# Altium footprint library switch.PCBLIB: 92 footprints (part 3 of 6)
Each footprint in its own frame and in the unit in brackets; x right, y up, seen from the top. Pads: shape width x height; smd on the part's side, far side on the other; paste and mask are expansions set on the pad; w line width, h text height; cw(c..) or ccw(c..) is an arc to the next point about the centre after c.
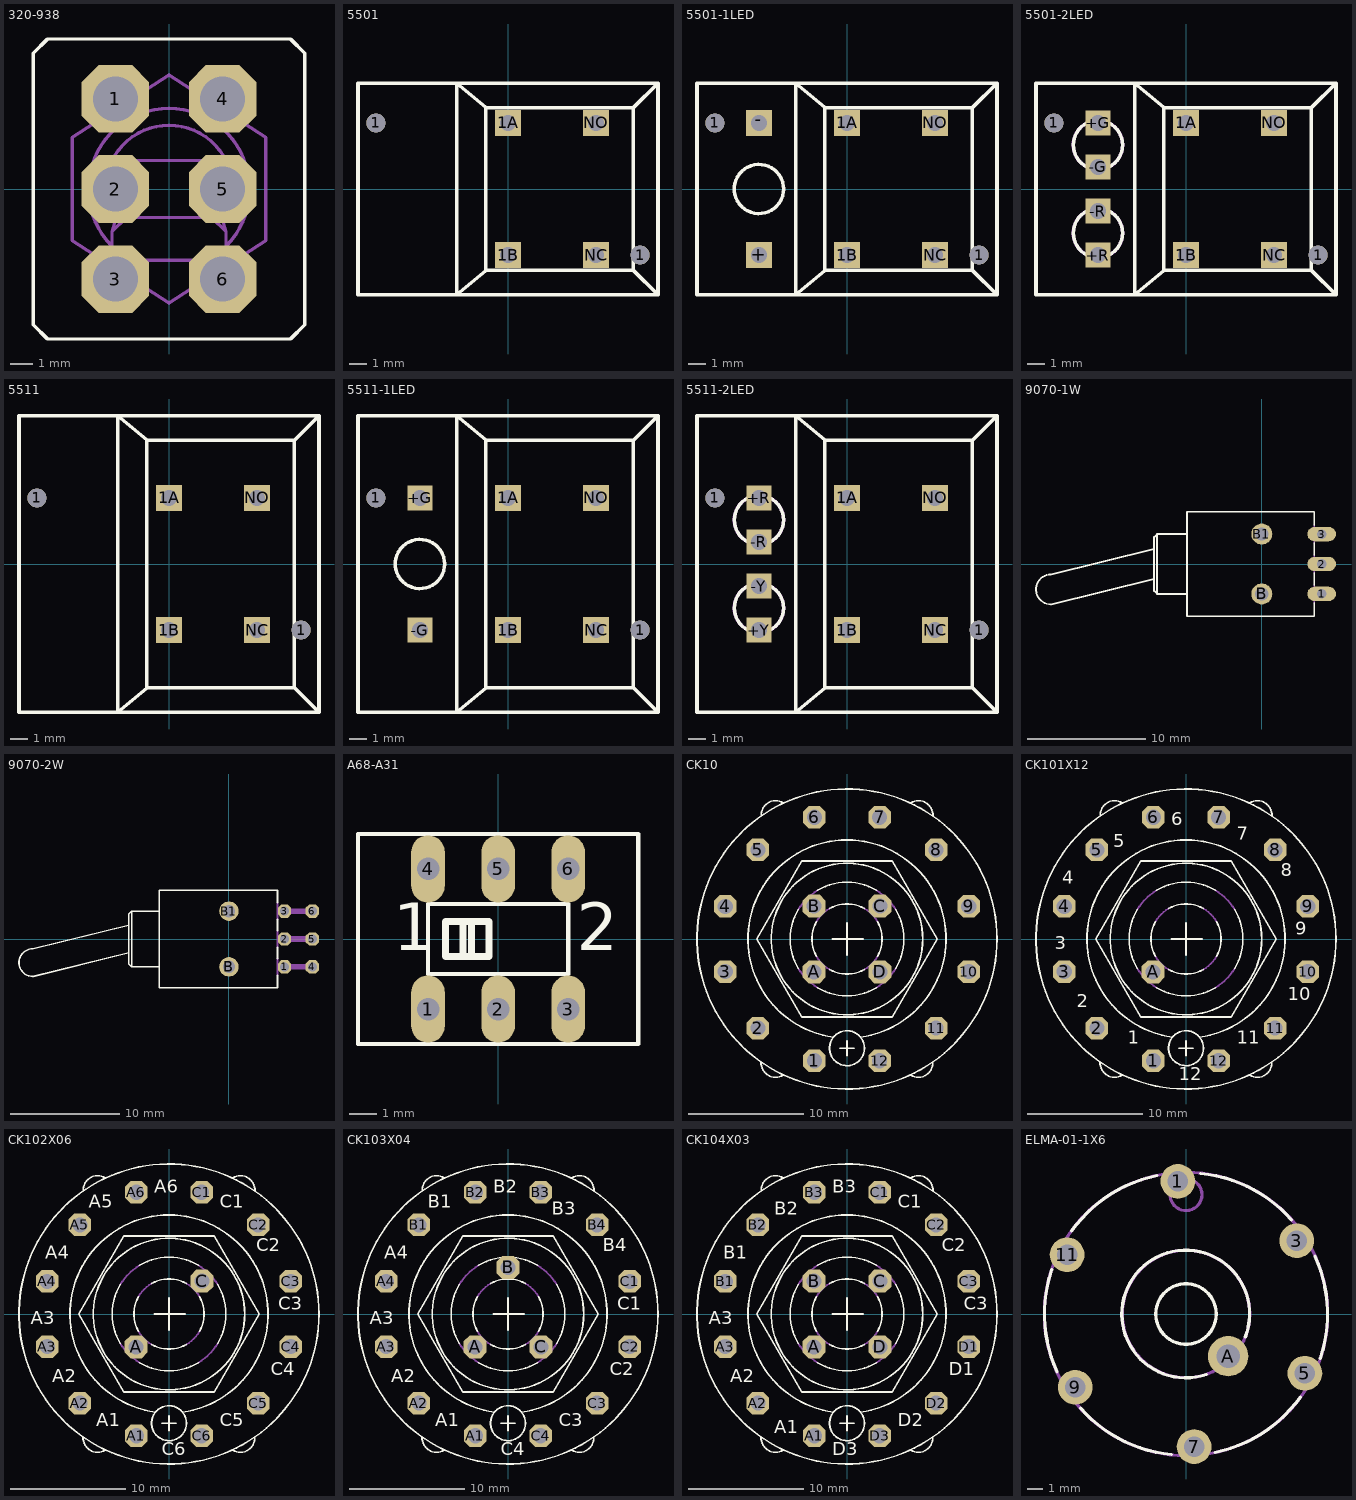
[diagram p2: the footprints below, top view; thin cyan lines are the x and y axes]

## 320-938 [mil]
pads (6):
  oct 118.5x118.5 hole 79: 1(-94,158) 2(-94,0) 3(-94,-158) 4(94,158) 5(94,0) 6(94,-158)
Top Overlay:
  lines w6: -238,-238 -213,-263 213,-263 238,-238 238,238 213,263 -213,263 -238,238 -238,-238
Mechanical 16:
  lines w6: -100,-50 cw(c0,0) 100,-50 ; -100,-100 -75,-125 75,-125 100,-100 ; -100,-100 -100,-75 ; -100,-100 cw(c0,0) 100,-100 ; -100,-75 -75,-50 75,-50 100,-75 ; -100,-75 -63,50 63,50 100,-75 ; 100,-100 100,-75 ; -170,-90 -170,90 0,200 170,90 170,-90 0,-200 -170,-90

## 5501 [mil]
pads (6):
  round 43.31 hole 43.31: 1(-300,150) 1(300,-150)
  rect 59.06x59.06 hole 35.43: 1A(0,150) 1B(0,-150) NC(200,-150) NO(200,150)
Top Overlay:
  lines w8: -116.73,-240.16 -340.74,-240.16 -340.74,240.16 -116.73,240.16 ; -116.73,-240.16 340.74,-240.16 ; -116.73,-240.16 -116.73,240.16 ; -116.73,-240.16 -50,-185 ; -116.73,240.16 340.74,240.16 ; -116.73,240.16 -50,185 ; -50,-185 -50,185 ; -50,-185 285,-185 ; -50,185 285,185 ; 285,-185 340.74,-240.16 ; 285,-185 285,185 ; 285,185 340.74,240.16 ; 340.74,-240.16 340.74,240.16

## 5501-1LED [mil]
pads (8):
  round 43.31 hole 43.31: 1(-300,150) 1(300,-150)
  rect 59.06x59.06 hole 35.43: 1A(0,150) 1B(0,-150) +(-200,-150) -(-200,150) NC(200,-150) NO(200,150)
Top Overlay:
  circle w8: c-200,0 r55.9
  lines w8: -116.73,-240.16 -340.74,-240.16 -340.74,240.16 -116.73,240.16 ; -116.73,-240.16 340.74,-240.16 ; -116.73,-240.16 -116.73,240.16 ; -116.73,-240.16 -50,-185 ; -116.73,240.16 340.74,240.16 ; -116.73,240.16 -50,185 ; -50,-185 -50,185 ; -50,-185 285,-185 ; -50,185 285,185 ; 285,-185 340.74,-240.16 ; 285,-185 285,185 ; 285,185 340.74,240.16 ; 340.74,-240.16 340.74,240.16

## 5501-2LED [mil]
pads (10):
  round 43.31 hole 43.31: 1(-300,150) 1(300,-150)
  rect 59.06x59.06 hole 35.43: 1A(0,150) 1B(0,-150) NC(200,-150) NO(200,150)
  rect 56x56 hole 35.43: +G(-200,150) +R(-200,-150) -G(-200,50) -R(-200,-50)
Top Overlay:
  lines w8: -225,-150 cw(c-200,-100) -225,-50 ; -225,50 cw(c-200,100) -225,150 ; -175,-150 ccw(c-200,-100) -175,-50 ; -175,50 ccw(c-200,100) -175,150 ; -116.73,-240.16 -340.74,-240.16 -340.74,240.16 -116.73,240.16 ; -116.73,-240.16 340.74,-240.16 ; -116.73,-240.16 -116.73,240.16 ; -116.73,-240.16 -50,-185 ; -116.73,240.16 340.74,240.16 ; -116.73,240.16 -50,185 ; -50,-185 -50,185 ; -50,-185 285,-185 ; -50,185 285,185 ; 285,-185 340.74,-240.16 ; 285,-185 285,185 ; 285,185 340.74,240.16 ; 340.74,-240.16 340.74,240.16
Mechanical 16:
  circle w8: c-200,100 r55.9
  circle w8: c-200,-100 r55.9

## 5511 [mil]
pads (6):
  round 43.31 hole 43.31: 1(-300,150) 1(300,-150)
  rect 59.06x59.06 hole 35.43: 1A(0,150) 1B(0,-150) NC(200,-150) NO(200,150)
Top Overlay:
  lines w8: -116.73,-336.62 -340.74,-336.62 -340.74,336.62 -116.73,336.62 ; -116.73,-336.62 340.74,-336.62 ; -116.73,-336.62 -116.73,336.62 ; -116.73,-336.62 -50,-281.46 ; -116.73,336.62 340.74,336.62 ; -116.73,336.62 -50,281.46 ; -50,-281.46 -50,281.46 ; -50,-281.46 285,-281.46 ; -50,281.46 285,281.46 ; 285,-281.46 340.74,-336.62 ; 285,-281.46 285,281.46 ; 285,281.46 340.74,336.62 ; 340.74,-336.62 340.74,336.62

## 5511-1LED [mil]
pads (8):
  round 43.31 hole 43.31: 1(-300,150) 1(300,-150)
  rect 59.06x59.06 hole 35.43: 1A(0,150) 1B(0,-150) NC(200,-150) NO(200,150)
  rect 56x56 hole 35.43: +G(-200,150) -G(-200,-150)
Top Overlay:
  circle w8: c-200,0 r55.9
  lines w8: -116.73,-336.62 -340.74,-336.62 -340.74,336.62 -116.73,336.62 ; -116.73,-336.62 340.74,-336.62 ; -116.73,-336.62 -116.73,336.62 ; -116.73,-336.62 -50,-281.46 ; -116.73,336.62 340.74,336.62 ; -116.73,336.62 -50,281.46 ; -50,-281.46 -50,281.46 ; -50,-281.46 285,-281.46 ; -50,281.46 285,281.46 ; 285,-281.46 340.74,-336.62 ; 285,-281.46 285,281.46 ; 285,281.46 340.74,336.62 ; 340.74,-336.62 340.74,336.62

## 5511-2LED [mil]
pads (10):
  round 43.31 hole 43.31: 1(-300,150) 1(300,-150)
  rect 59.06x59.06 hole 35.43: 1A(0,150) 1B(0,-150) NC(200,-150) NO(200,150)
  rect 56x56 hole 35.43: +R(-200,150) +Y(-200,-150) -R(-200,50) -Y(-200,-50)
Top Overlay:
  lines w8: -225,-150 cw(c-200,-100) -225,-50 ; -225,50 cw(c-200,100) -225,150 ; -175,-150 ccw(c-200,-100) -175,-50 ; -175,50 ccw(c-200,100) -175,150 ; -116.73,-336.62 -340.74,-336.62 -340.74,336.62 -116.73,336.62 ; -116.73,-336.62 340.74,-336.62 ; -116.73,-336.62 -116.73,336.62 ; -116.73,-336.62 -50,-281.46 ; -116.73,336.62 340.74,336.62 ; -116.73,336.62 -50,281.46 ; -50,-281.46 -50,281.46 ; -50,-281.46 285,-281.46 ; -50,281.46 285,281.46 ; 285,-281.46 340.74,-336.62 ; 285,-281.46 285,281.46 ; 285,281.46 340.74,336.62 ; 340.74,-336.62 340.74,336.62
Mechanical 16:
  circle w8: c-200,100 r55.9
  circle w8: c-200,-100 r55.9

## 9070-1W [mil]
pads (5):
  oval 96x48 hole 32: 1(200,-100) 2(200,0) 3(200,100)
  round 70 hole 44: B(0,-100) B1(0,100)
Top Overlay:
  lines w6: 175,-130 175,-175 -250,-175 -250,-100 ; 175,-70 175,-30 ; 175,30 175,70 ; 175,130 175,175 -250,175 -250,100 ; -360,-50 -360,-90 -350,-100 ; -360,-50 -705,-135 cw(c-705,-85) -705,-35 -360,50 ; -360,-50 -360,50 ; -360,50 -360,90 -350,100 ; -350,-100 -250,-100 ; -350,-100 -350,100 ; -350,100 -250,100 ; -250,-100 -250,100
Mechanical 16:
  rectangle: 175,-115 200,-85
  rectangle: 175,-15 200,15
  rectangle: 175,85 200,115
  lines w6: 175,-130 175,-70 ; 175,-30 175,30 ; 175,70 175,130

## 9070-2W [mil]
pads (8):
  oct 48x48 hole 32: 1(200,-100) 2(200,0) 3(200,100) 4(300,-100) 5(300,0) 6(300,100)
  round 70 hole 44: B(0,-100) B1(0,100)
Top Overlay:
  lines w6: 175,-130 175,-175 -250,-175 -250,-100 ; 175,-70 175,-30 ; 175,30 175,70 ; 175,130 175,175 -250,175 -250,100 ; -360,-50 -360,-90 -350,-100 ; -360,-50 -705,-135 cw(c-705,-85) -705,-35 -360,50 ; -360,-50 -360,50 ; -360,50 -360,90 -350,100 ; -350,-100 -250,-100 ; -350,-100 -350,100 ; -350,100 -250,100 ; -250,-100 -250,100
Mechanical 16:
  rectangle: 175,-110 305,-90
  rectangle: 175,-10 305,10
  rectangle: 175,90 305,110
  lines w6: 175,-130 175,-70 ; 175,-30 175,30 ; 175,70 175,130

## A68-A31 [mil]
pads (6):
  oval 48x96 hole 32: 1(-100,-100) 2(0,-100) 3(100,-100) 4(-100,100) 5(0,100) 6(100,100)
Top Overlay:
  lines w6: -200,-150 200,-150 200,150 -200,150 -200,-150 ; -100,-50 -100,50 100,50 100,-50 -100,-50
  lines w10: -50,-25 -75,-25 -75,25 -50,25 ; -50,-25 -50,25 ; -50,-25 -38,-25 ; -50,25 -38,25 ; -38,-25 -38,25 ; -38,-25 -13,-25 -13,25 -38,25
  text "1" at -150,-38 h116.25
  text "2" at 112,-38 h116.25

## CK10 [mil]
pads (16):
  oct 78x78 hole 52: 1(-112,-418) 2(-306,-306) 3(-418,-112) 4(-418,112) 5(-306,306) 6(-112,418) 7(112,418) 8(306,306) 9(418,112) 10(418,-112) 11(306,-306) 12(112,-418) A(-113,-113) B(-113,113) C(113,113) D(113,-113)
Top Overlay:
  circle w6: c0,-375 r60
  circle w6: c0,0 r515
  circle w6: c0,0 r260
  lines w6: -295,-422 ccw(c-245,-425) -217.91,-467.13 ; -294.84,422.01 cw(c-245,425) -218,467.01 ; -167,-101 cw(c0,0) -167,101 ; -105,-59 cw(c0,0) -105,59 ; -101,-167 ccw(c0,0) 101,-167 ; -101,167 cw(c0,0) 101,167 ; -59,-105 ccw(c0,0) 59,-105 ; -59,105 cw(c0,0) 59,105 ; -50,0 55,0 ; -46,-337 cw(c0,0) 46,-337 ; -25,-375 25,-375 ; 0,-400 0,-350 ; 0,-55 0,55 ; 105,-59 ccw(c0,0) 105,59 ; 167,-101 ccw(c0,0) 167,101 ; 217.91,467.13 cw(c245,425) 295,422 ; 218,-467 ccw(c244.99,-425) 294.83,-422.01 ; -310,0 -155,-268 155,-268 310,0 155,268 -155,268 -310,0
Mechanical 16:
  lines w6: -167,-101 ccw(c0,0) -101,-167 ; -167,101 cw(c0,0) -101,167 ; -105,-59 ccw(c0,0) -59,-105 ; -105,59 cw(c0,0) -59,105 ; 59,-105 ccw(c0,0) 105,-59 ; 59,105 cw(c0,0) 105,59 ; 101,-167 ccw(c0,0) 167,-101 ; 101,167 cw(c0,0) 167,101

## CK101X12 [mil]
pads (13):
  oct 78x78 hole 52: 1(-112,-418) 2(-306,-306) 3(-418,-112) 4(-418,112) 5(-306,306) 6(-112,418) 7(112,418) 8(306,306) 9(418,112) 10(418,-112) 11(306,-306) 12(112,-418) A(-113,-113)
Top Overlay:
  circle w6: c0,-375 r60
  circle w6: c0,0 r515
  circle w6: c0,0 r260
  lines w6: -295,-422 ccw(c-245,-425) -217.91,-467.13 ; -294.84,422.01 cw(c-245,425) -218,467.01 ; -167,-101 cw(c0,0) -167,101 ; -105,-59 cw(c0,0) -105,59 ; -101,-167 ccw(c0,0) 101,-167 ; -101,167 cw(c0,0) 101,167 ; -59,-105 ccw(c0,0) 59,-105 ; -59,105 cw(c0,0) 59,105 ; -50,0 55,0 ; -46,-337 cw(c0,0) 46,-337 ; -25,-375 25,-375 ; 0,-400 0,-350 ; 0,-55 0,55 ; 105,-59 ccw(c0,0) 105,59 ; 167,-101 ccw(c0,0) 167,101 ; 217.91,467.13 cw(c245,425) 295,422 ; 218,-467 ccw(c244.99,-425) 294.83,-422.01 ; -310,0 -155,-268 155,-268 310,0 155,268 -155,268 -310,0
  text "1" at -200,-375 h77.5
  text "2" at -375,-250 h77.5
  text "3" at -450,-50 h77.5
  text "4" at -425,175 h77.5
  text "5" at -250,300 h77.5
  text "6" at -50,375 h77.5
  text "7" at 175,325 h77.5
  text "8" at 325,200 h77.5
  text "9" at 375,0 h77.5
  text "10" at 350,-225 h77.5
  text "11" at 175,-375 h77.5
  text "12" at -25,-500 h77.5
Mechanical 16:
  lines w6: -167,-101 ccw(c0,0) -101,-167 ; -167,101 cw(c0,0) -101,167 ; -105,-59 ccw(c0,0) -59,-105 ; -105,59 cw(c0,0) -59,105 ; 59,-105 ccw(c0,0) 105,-59 ; 59,105 cw(c0,0) 105,59 ; 101,-167 ccw(c0,0) 167,-101 ; 101,167 cw(c0,0) 167,101

## CK102X06 [mil]
pads (14):
  oct 78x78 hole 52: A(-113,-113) A1(-112,-418) A2(-306,-306) A3(-418,-112) A4(-418,112) A5(-306,306) A6(-112,418) C(113,113) C1(112,418) C2(306,306) C3(418,112) C4(418,-112) C5(306,-306) C6(112,-418)
Top Overlay:
  circle w6: c0,-375 r60
  circle w6: c0,0 r515
  circle w6: c0,0 r260
  lines w6: -295,-422 ccw(c-245,-425) -217.91,-467.13 ; -294.84,422.01 cw(c-245,425) -218,467.01 ; -167,-101 cw(c0,0) -167,101 ; -105,-59 cw(c0,0) -105,59 ; -101,-167 ccw(c0,0) 101,-167 ; -101,167 cw(c0,0) 101,167 ; -59,-105 ccw(c0,0) 59,-105 ; -59,105 cw(c0,0) 59,105 ; -50,0 55,0 ; -46,-337 cw(c0,0) 46,-337 ; -25,-375 25,-375 ; 0,-400 0,-350 ; 0,-55 0,55 ; 105,-59 ccw(c0,0) 105,59 ; 167,-101 ccw(c0,0) 167,101 ; 217.91,467.13 cw(c245,425) 295,422 ; 218,-467 ccw(c244.99,-425) 294.83,-422.01 ; -310,0 -155,-268 155,-268 310,0 155,268 -155,268 -310,0
  text "A1" at -250,-400 h77.5
  text "A2" at -400,-250 h77.5
  text "A3" at -475,-50 h77.5
  text "A4" at -425,175 h77.5
  text "A5" at -275,350 h77.5
  text "A6" at -50,400 h77.5
  text "C1" at 175,350 h77.5
  text "C2" at 300,200 h77.5
  text "C3" at 375,0 h77.5
  text "C4" at 350,-225 h77.5
  text "C5" at 175,-400 h77.5
  text "C6" at -25,-500 h77.5
Mechanical 16:
  lines w6: -167,-101 ccw(c0,0) -101,-167 ; -167,101 cw(c0,0) -101,167 ; -105,-59 ccw(c0,0) -59,-105 ; -105,59 cw(c0,0) -59,105 ; 59,-105 ccw(c0,0) 105,-59 ; 59,105 cw(c0,0) 105,59 ; 101,-167 ccw(c0,0) 167,-101 ; 101,167 cw(c0,0) 167,101

## CK103X04 [mil]
pads (15):
  oct 78x78 hole 52: A(-113,-113) A1(-112,-418) A2(-306,-306) A3(-418,-112) A4(-418,112) B(0,159.81) B1(-306,306) B2(-112,418) B3(112,418) B4(306,306) C(113,-113) C1(418,112) C2(418,-112) C3(306,-306) C4(112,-418)
Top Overlay:
  circle w6: c0,-375 r60
  circle w6: c0,0 r515
  circle w6: c0,0 r260
  lines w6: -295,-422 ccw(c-245,-425) -217.91,-467.13 ; -294.84,422.01 cw(c-245,425) -218,467.01 ; -167,-101 cw(c0,0) -167,101 ; -105,-59 cw(c0,0) -105,59 ; -101,-167 ccw(c0,0) 101,-167 ; -101,167 cw(c0,0) 101,167 ; -59,-105 ccw(c0,0) 59,-105 ; -59,105 cw(c0,0) 59,105 ; -50,0 55,0 ; -46,-337 cw(c0,0) 46,-337 ; -25,-375 25,-375 ; 0,-400 0,-350 ; 0,-55 0,55 ; 105,-59 ccw(c0,0) 105,59 ; 167,-101 ccw(c0,0) 167,101 ; 217.91,467.13 cw(c245,425) 295,422 ; 218,-467 ccw(c244.99,-425) 294.83,-422.01 ; -310,0 -155,-268 155,-268 310,0 155,268 -155,268 -310,0
  text "A1" at -250,-400 h77.5
  text "A2" at -400,-250 h77.5
  text "A3" at -475,-50 h77.5
  text "A4" at -425,175 h77.5
  text "B1" at -275,350 h77.5
  text "B2" at -50,400 h77.5
  text "B3" at 150,325 h77.5
  text "B4" at 325,200 h77.5
  text "C1" at 375,0 h77.5
  text "C2" at 350,-225 h77.5
  text "C3" at 175,-400 h77.5
  text "C4" at -25,-500 h77.5
Mechanical 16:
  lines w6: -167,-101 ccw(c0,0) -101,-167 ; -167,101 cw(c0,0) -101,167 ; -105,-59 ccw(c0,0) -59,-105 ; -105,59 cw(c0,0) -59,105 ; 59,-105 ccw(c0,0) 105,-59 ; 59,105 cw(c0,0) 105,59 ; 101,-167 ccw(c0,0) 167,-101 ; 101,167 cw(c0,0) 167,101

## CK104X03 [mil]
pads (16):
  oct 78x78 hole 52: A(-113,-113) A1(-112,-418) A2(-306,-306) A3(-418,-112) B(-113,113) B1(-418,112) B2(-306,306) B3(-112,418) C(113,113) C1(112,418) C2(306,306) C3(418,112) D(113,-113) D1(418,-112) D2(306,-306) D3(112,-418)
Top Overlay:
  circle w6: c0,-375 r60
  circle w6: c0,0 r515
  circle w6: c0,0 r260
  lines w6: -295,-422 ccw(c-245,-425) -217.91,-467.13 ; -294.84,422.01 cw(c-245,425) -218,467.01 ; -167,-101 cw(c0,0) -167,101 ; -105,-59 cw(c0,0) -105,59 ; -101,-167 ccw(c0,0) 101,-167 ; -101,167 cw(c0,0) 101,167 ; -59,-105 ccw(c0,0) 59,-105 ; -59,105 cw(c0,0) 59,105 ; -50,0 55,0 ; -46,-337 cw(c0,0) 46,-337 ; -25,-375 25,-375 ; 0,-400 0,-350 ; 0,-55 0,55 ; 105,-59 ccw(c0,0) 105,59 ; 167,-101 ccw(c0,0) 167,101 ; 217.91,467.13 cw(c245,425) 295,422 ; 218,-467 ccw(c244.99,-425) 294.83,-422.01 ; -310,0 -155,-268 155,-268 310,0 155,268 -155,268 -310,0
  text "A1" at -250,-425 h77.5
  text "A2" at -400,-250 h77.5
  text "A3" at -475,-50 h77.5
  text "B1" at -425,175 h77.5
  text "B2" at -250,325 h77.5
  text "B3" at -50,400 h77.5
  text "C1" at 175,350 h77.5
  text "C2" at 325,200 h77.5
  text "C3" at 400,0 h77.5
  text "D1" at 350,-225 h77.5
  text "D2" at 175,-400 h77.5
  text "D3" at -50,-500 h77.5
Mechanical 16:
  lines w6: -167,-101 ccw(c0,0) -101,-167 ; -167,101 cw(c0,0) -101,167 ; -105,-59 ccw(c0,0) -59,-105 ; -105,59 cw(c0,0) -59,105 ; 59,-105 ccw(c0,0) 105,-59 ; 59,105 cw(c0,0) 105,59 ; 101,-167 ccw(c0,0) 167,-101 ; 101,167 cw(c0,0) 167,101

## ELMA-01-1X6 [mil]
pads (7):
  round 86 hole 51.18: 1(-20.07,328.13) 3(274.13,181.44) 5(294.19,-146.68) 7(20.07,-328.13) 9(-274.13,-181.44) 11(-294.19,146.68)
  round 100 hole 59.06: A(104.4,-104.4)
Top Overlay:
  circle w8: c0,0 r74.8
  lines w8: -332.43,109.25 ccw(c-4.11,-0.04) -319.27,-142.91 ; -283.4,205.04 cw(c-2.08,3.53) -71.6,342.52 ; -260.82,-233.27 ccw(c-2.02,-3.59) -35.87,-347.95 ; 35.87,347.95 cw(c2.02,3.59) 260.82,233.27 ; 50.2,-149.61 cw(c-0.7,-0.01) 146.65,-57.09 ; 71.6,-342.52 ccw(c2.08,-3.53) 283.4,-205.04 ; 319.27,142.91 cw(c4.11,0.04) 332.43,-109.25
Mechanical 16:
  circle w8: c0,0 r350.39
  circle w8: c0,0 r157.48
  circle w8: c0,295.28 r39.37